# EAGLE library part S3 (library Panasonic Relay)
S - 3 Form A 1 Form B - Single side stable Data sheet <https://www.panasonic-electric-works.com/eu/download.htm?id=55724> Parameters Max. switching voltage: 48V DC, 250V AC Max. switching current:3 A DC / 4 A AC Operational function: Single side stable, 1 coil latching, 2 coil latching Contact arrangement: 2 NO 2 NC / 3 NO 1 NC / 4 NO Applications Telecommunications equipment data processing equipment alarm equipment measuring equipment Options Also available as 1 coil latching and 2 coil latching version
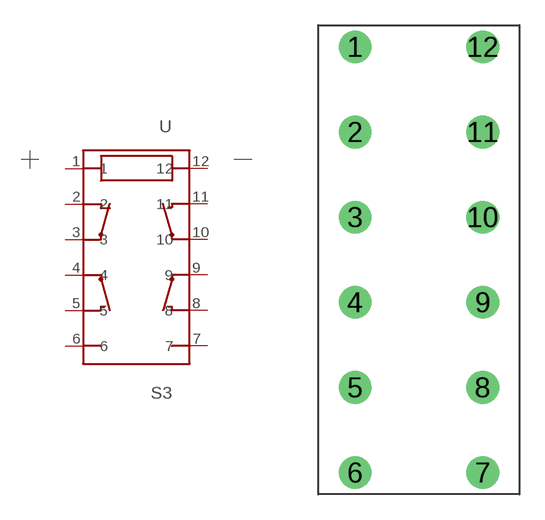
[diagram p13: symbol with the pads of S2/3/4_SSS/2CLT; footprint S2/3/4_SSS/2CLT]

Designator prefix -

## S3-DC12V (U_COIL: 12V DC), S3-DC24V (U_COIL: 24V DC), S3-DC3V (U_COIL: 3V DC), S3-DC48V (U_COIL: 48V DC), S3-DC5V (U_COIL: 5V DC), S3-DC6V (U_COIL: 6V DC)  [S2/3/4_SSS/2CLT]
1  1
2  2
3  3
4  4
5  5
6  6
7  7
8  8
9  9
10  10
11  11
12  12

## Footprint S2/3/4_SSS/2CLT (pad centres in mm)
drill 1.3: 1 -3.81,12.7; 2 -3.81,7.62; 3 -3.81,2.54; 4 -3.81,-2.54; 5 -3.81,-7.62; 6 -3.81,-12.7; 7 3.81,-12.7; 8 3.81,-7.62; 9 3.81,-2.54; 10 3.81,2.54; 11 3.81,7.62; 12 3.81,12.7